# Altium schematic symbol library 2020-01-06_12-17-20.SchLib: 10 symbols
Pins are listed as number, name and electrical type; pins without a type are passive.

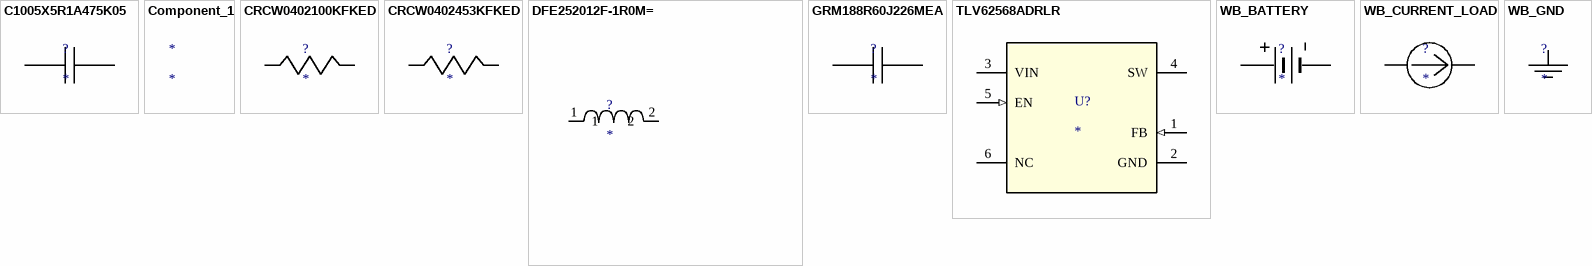
[diagram p0: symbols C1005X5R1A475K05 to WB_GND]

## C1005X5R1A475K05
designator ?
Imported; Manufacturer_Part_Number: C1005X5R1A475K050BC; Vendor: TDK; Manufacturer_Name: TDK; RefDes: RefDes; TYPE: TYPE; Value: Value
footprint 0402_065
pins: 1, 2

## Component_1
designator *

## CRCW0402100KFKED
designator ?
Imported; Manufacturer_Part_Number: CRCW0402100KFKED; Vendor: Vishay-Dale; Manufacturer_Name: Vishay-Dale; RefDes: RefDes; TYPE: TYPE; Value: Value
footprint 0402
pins: 1, 2

## CRCW0402453KFKED
designator ?
Imported; Manufacturer_Part_Number: CRCW0402453KFKED; Vendor: Vishay-Dale; Manufacturer_Name: Vishay-Dale; RefDes: RefDes; TYPE: TYPE; Value: Value
footprint 0402
pins: 1, 2

## DFE252012F-1R0M=
designator ?
Imported; Manufacturer_Part_Number: DFE252012F-1R0M=P2; Vendor: MuRata Toko; Manufacturer_Name: MuRata Toko; RefDes: RefDes; TYPE: TYPE; Value: Value
footprint DFE252012F
pins: 1, 2

## GRM188R60J226MEA
designator ?
Imported; Manufacturer_Part_Number: GRM188R60J226MEA0D; Vendor: MuRata; Manufacturer_Name: MuRata; RefDes: RefDes; TYPE: TYPE; Value: Value
footprint 0603
pins: 1, 2

## TLV62568ADRLR
designator U?
Imported; Manufacturer: Texas Instruments; PartNumber: TLV62568ADRLR; RefDes: RefDes; TYPE: TYPE; Value: Value; Manufacturer_Part_Number: TLV62568ADRLR; Manufacturer_Name: Texas Instruments
footprint DRL0006A
pins: 1 FB (in), 2 GND (power), 3 VIN (power), 4 SW (power), 5 EN (in), 6 NC

## WB_BATTERY
designator ?
Imported; Manufacturer_Part_Number: WB_BATTERY; PowerPortType: POWER_GROUND; Value: Value; Manufacturer_Name: WB_BATTERY; RefDes: RefDes; TYPE: TYPE
pins: 1 +, 2 -

## WB_CURRENT_LOAD
designator ?
Imported; Manufacturer_Part_Number: WB_CURRENT_LOAD; PowerPortType: POWER_GROUND; Value: Value; Manufacturer_Name: WB_CURRENT_LOAD; RefDes: RefDes; TYPE: TYPE
pins: 1 +, 2 -

## WB_GND
designator ?
Imported; Manufacturer_Part_Number: WB_GND; PowerPortType: POWER_GROUND; Value: Value; Manufacturer_Name: WB_GND; RefDes: RefDes; TYPE: TYPE
pins: 1